# Altium footprint library Transistors.PcbLib: 7 footprints
Each footprint in its own frame and in the unit in brackets; x right, y up, seen from the top. Pads: shape width x height; smd on the part's side, far side on the other; paste and mask are expansions set on the pad; w line width, h text height; cw(c..) or ccw(c..) is an arc to the next point about the centre after c.
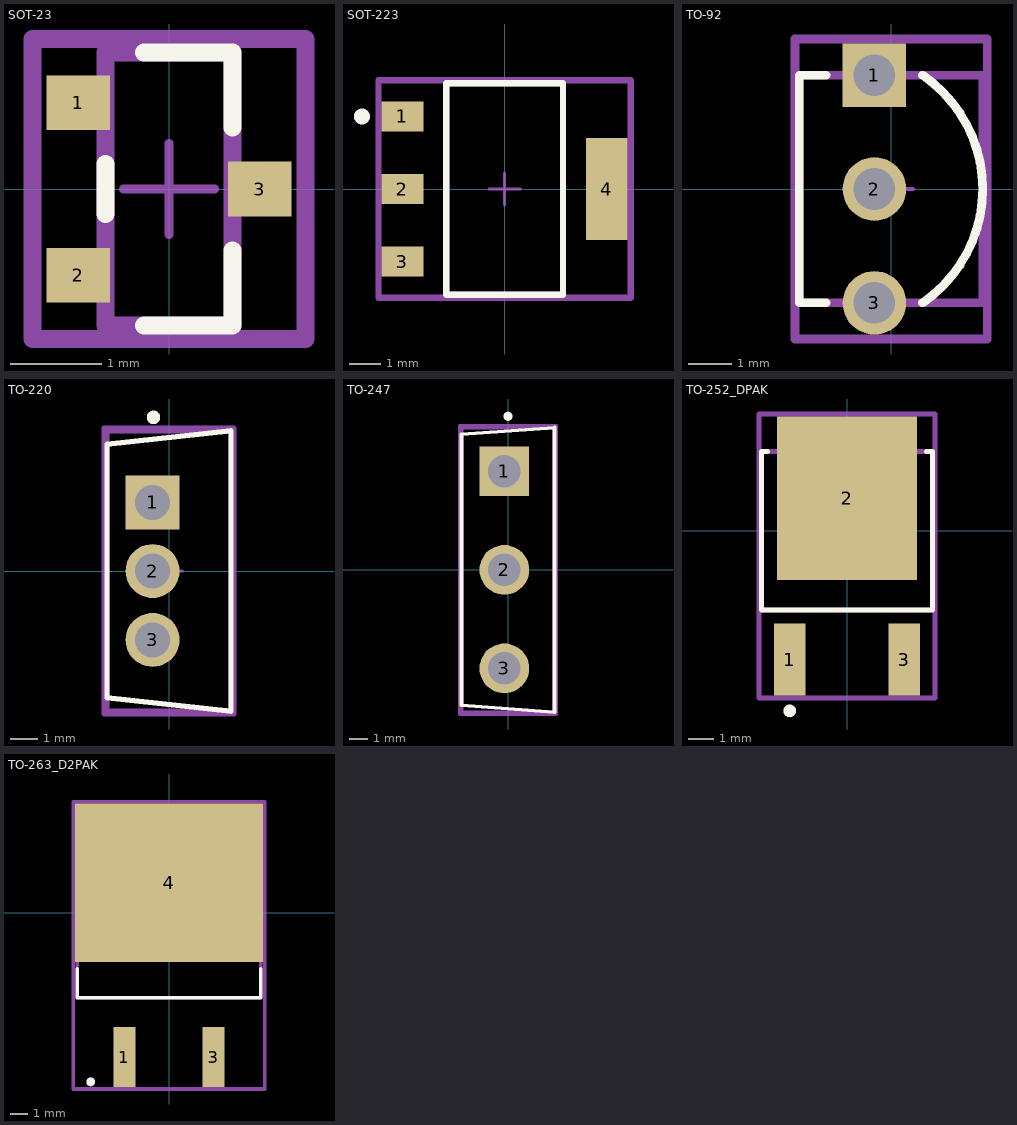
[diagram p0: the footprints below, top view; thin cyan lines are the x and y axes]

## SOT-23 [mm]
pads (3):
  rect 0.7x0.6 smd paste-1000 mask+0: 1(-1,0.95) 2(-1,-0.95) 3(1,0)
Top Overlay:
  lines w0.2: -0.7,-0.275 -0.7,0.275 ; -0.275,-1.5 0.7,-1.5 0.7,-0.675 ; -0.275,1.5 0.7,1.5 0.7,0.675
Top Paste:
  rectangle: -1.3,-1.2 -0.7,-0.7
  rectangle: -1.3,0.7 -0.7,1.2
  rectangle: 0.7,-0.25 1.3,0.25
Top Assembly:
  lines w0.2: -1.5,-1.65 -1.5,1.65 1.5,1.65 1.5,-1.65 -1.5,-1.65
Top 3D Body:
  lines w0.2: -0.7,-1.5 -0.7,1.5 0.7,1.5 0.7,-1.5 -0.7,-1.5
Top Courtyard:
  lines w0.2: -1.5,-1.65 -1.5,1.65 1.5,1.65 1.5,-1.65 -1.5,-1.65
Top Component Center:
  lines w0.1: -0.5,0 0.5,0 ; 0,-0.5 0,0.5
3D body "Trans_Nexperia_PMV20ENR_eec.STEP": height 0.25, standoff 0, extent -1.5,-1.65 1.5,1.65

## SOT-223 [mm]
pads (4):
  rect 1.32x0.95 smd paste+0 mask+0: 1(-3.24,2.3) 2(-3.24,0) 3(-3.24,-2.3)
  rect 1.32x3.25 smd paste+0 mask+0: 4(3.24,0)
Top Overlay:
  circle w0.25: c-4.525,2.3 r0.125
  lines w0.2: -1.85,-3.35 1.85,-3.35 1.85,3.35 -1.85,3.35 -1.85,-3.35
Top Assembly:
  lines w0.2: -4,-3.45 4,-3.45 4,3.45 -4,3.45 -4,-3.45
Top 3D Body:
  lines w0.2: -1.85,-3.35 1.85,-3.35 1.85,3.35 -1.85,3.35 -1.85,-3.35
Top Courtyard:
  lines w0.2: -4,-3.45 4,-3.45 4,3.45 -4,3.45 -4,-3.45
Top Component Center:
  lines w0.1: -0.5,0 0.5,0 ; 0,-0.5 0,0.5
3D body "Trans_STMicroelectronics_Z0103MN_5AA4_eec.STEP": height 0.25, standoff 0, extent -4,-3.45 4,3.45

## TO-92 [mm]
pads (3):
  rect 1.45x1.45 hole 0.95 paste-2539.97 mask+0: 1(-0.38,2.6)
  round 1.45 hole 0.95 paste-2539.97 mask+0: 2(-0.38,0) 3(-0.38,-2.6)
Top Overlay:
  lines w0.2: -1.48,-2.6 -2.095,-2.6 -2.095,2.6 -1.48,2.6 ; 0.72,-2.6 ccw(c-1.058,0) 0.72,2.6
Top Assembly:
  lines w0.2: -2.195,-3.425 2.195,-3.425 2.195,3.425 -2.195,3.425 -2.195,-3.425
Top 3D Body:
  lines w0.2: -2.095,-2.6 2.095,-2.6 2.095,2.6 -2.095,2.6 -2.095,-2.6
Top Courtyard:
  lines w0.2: -2.195,-3.425 2.195,-3.425 2.195,3.425 -2.195,3.425 -2.195,-3.425
Top Component Center:
  lines w0.1: -0.5,0 0.5,0 ; 0,-0.5 0,0.5
3D body "Trans_onsemi_KSA733YTA_eec.STEP": height 0.25, standoff 0, extent -2.195,-3.425 2.195,3.425

## TO-220 [mm]
pads (3):
  rect 2x2 hole 1.3 paste-2539.97 mask+0: 1(-0.607,2.55)
  round 2 hole 1.3 paste-2539.97 mask+0: 2(-0.607,0) 3(-0.607,-2.55)
Top Overlay:
  circle w0.25: c-0.575,5.7 r0.125
  lines w0.2: -2.3,-4.7 2.3,-5.2 2.3,5.2 -2.3,4.7 -2.3,-4.7
Top Assembly:
  lines w0.2: -2.4,-5.3 2.4,-5.3 2.4,5.3 -2.4,5.3 -2.4,-5.3
Top 3D Body:
  lines w0.2: -2.3,-5.2 2.3,-5.2 2.3,5.2 -2.3,5.2 -2.3,-5.2
Top Courtyard:
  lines w0.2: -2.4,-5.3 2.4,-5.3 2.4,5.3 -2.4,5.3 -2.4,-5.3
Top Component Center:
  lines w0.1: -0.5,0 0.5,0 ; 0,-0.5 0,0.5
3D body "Trans_STMicroelectronics_TIP32C_eec.STEP": height 0.25, standoff 0, extent -2.4,-5.3 2.4,5.3

## TO-247 [mm]
pads (3):
  rect 2.75x2.75 hole 1.8 paste-2539.97 mask+0: 1(-0.2,5.45)
  round 2.75 hole 1.8 paste-2539.97 mask+0: 2(-0.2,0) 3(-0.2,-5.45)
Top Overlay:
  circle w0.25: c0,8.5 r0.125
  lines w0.2: -2.575,-7.5 2.575,-7.875 2.575,7.875 -2.575,7.5 -2.575,-7.5
Top Assembly:
  lines w0.2: -2.675,-7.975 -2.675,7.975 2.675,7.975 2.675,-7.975 -2.675,-7.975
Top 3D Body:
  lines w0.2: -2.575,-7.875 -2.575,7.875 2.575,7.875 2.575,-7.875 -2.575,-7.875
Top Courtyard:
  lines w0.2: -2.675,-7.975 -2.675,7.975 2.675,7.975 2.675,-7.975 -2.675,-7.975
Top Component Center:
  lines w0.1: -0.5,0 0.5,0 ; 0,-0.5 0,0.5
3D body "Trans_STMicroelectronics_BU508AW_eec.STEP": height 0.25, standoff 0, extent -2.675,-7.975 2.675,7.975

## TO-252_DPAK [mm]
pads (3):
  rect 1.25x2.85 smd paste+0 mask+0: 1(-2.28,-5.112) 3(2.28,-5.112)
  rect 5.55x6.5 smd paste+0 mask+0: 2(0,1.288)
Top Overlay:
  circle w0.25: c-2.275,-7.15 r0.125
  lines w0.2: -3.15,3.15 -3.4,3.15 -3.4,-3.15 3.4,-3.15 3.4,3.15 3.15,3.15
Top Assembly:
  lines w0.2: -3.5,-6.638 -3.5,4.637 3.5,4.637 3.5,-6.638 -3.5,-6.638
Top 3D Body:
  lines w0.2: -3.4,-3.15 -3.4,3.15 3.4,3.15 3.4,-3.15 -3.4,-3.15
Top Courtyard:
  lines w0.2: -3.5,-6.638 -3.5,4.637 3.5,4.637 3.5,-6.638 -3.5,-6.638
Top Component Center:
  lines w0.1: -0.5,0 0.5,0 ; 0,-0.5 0,0.5
3D body "Trans_onsemi_MJD32CTF_eec.STEP": height 0.25, standoff 0, extent -3.5,-6.638 3.5,4.637

## TO-263_D2PAK [mil]
pads (3):
  rect 49.49x135 smd paste+0 mask+0: 1(-100,-322.5) 3(100,-322.5)
  rect 420x355 smd paste+0 mask+0: 4(0,67.5)
Top Overlay:
  circle w9.84: c-175.2,-377.95 r4.92
  lines w7.87: -205,-124.76 -205,-190 205,-190 205,-124.76
Top Assembly:
  lines w7.87: -213.94,-393.94 213.94,-393.94 213.94,248.94 -213.94,248.94 -213.94,-393.94
Top 3D Body:
  lines w7.87: -205,-190 205,-190 205,190 -205,190 -205,-190
Top Courtyard:
  lines w7.87: -213.94,-393.94 213.94,-393.94 213.94,248.94 -213.94,248.94 -213.94,-393.94
Top Component Center:
  lines w3.94: -19.68,0 19.68,0 ; 0,-19.68 0,19.68
3D body "Trans_Vishay_SUM110P06-07L-E3_eec.STEP": height 10, standoff 0, extent -213.94,-393.94 213.94,248.94